# Altium schematic symbol library MUSB-AB.SchLib: 1 symbol
Pins are listed as number, name and electrical type; pins without a type are passive.

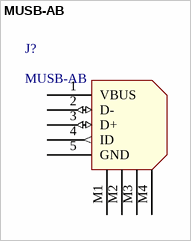
[diagram p0: symbol MUSB-AB]

## MUSB-AB
designator J?
pins: 1 VBUS (power), 2 D- (io), 3 D+ (io), 4 ID (out), 5 GND (power), M1 (power), M2 (power), M3 (power), M4 (power)